# Altium footprint library Componenetes1.PcbLib: 13 footprints
Each footprint in its own frame and in the unit in brackets; x right, y up, seen from the top. Pads: shape width x height; smd on the part's side, far side on the other; paste and mask are expansions set on the pad; w line width, h text height; cw(c..) or ccw(c..) is an arc to the next point about the centre after c.
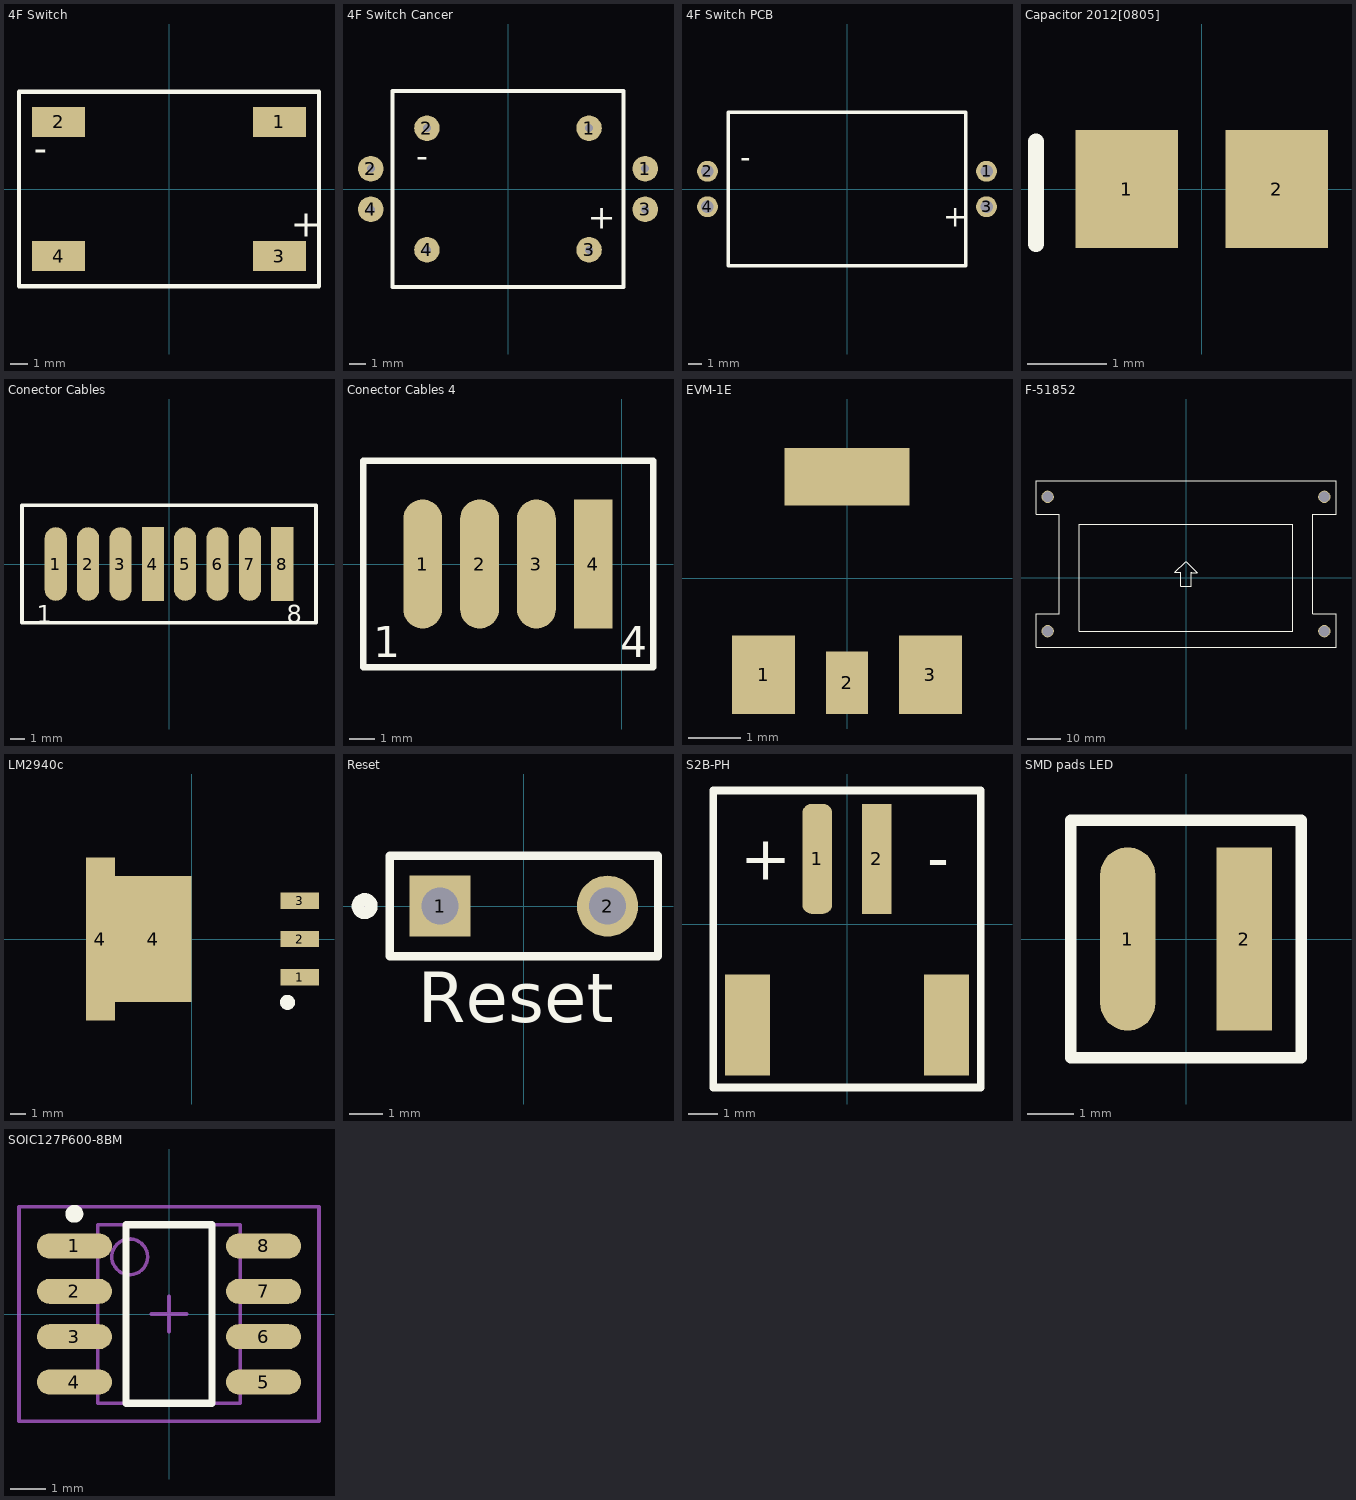
[diagram p0: the footprints below, top view; thin cyan lines are the x and y axes]

## 4F Switch [mm] "Tactile switch with LED"
pads (4):
  rect 3x1.7 smd: 1(6.25,3.81) 2(-6.25,3.81) 3(6.25,-3.81) 4(-6.25,-3.81)
Top Overlay:
  lines w0.254: -8.5,-5.5 -8.5,5.5 8.5,5.5 8.5,-5.5 -8.5,-5.5
  text "-" at -6.9,2.7 h1.52
  text "+" at 6.9,-2.7 h1.52

## 4F Switch Cancer [mm] "Tactile switch with LED"
pads (8):
  round 1.6 hole 0.5: 1(5.08,3.81) 1(8.6,1.27) 2(-8.6,1.27) 2(-5.08,3.81) 3(5.08,-3.81) 3(8.6,-1.27) 4(-8.6,-1.27) 4(-5.08,-3.81)
Top Overlay:
  lines w0.254: -7.25,-6.15 -7.25,6.15 7.25,6.15 7.25,-6.15 -7.25,-6.15
  text "-" at -5,2.5 h1.52
  text "+" at 5,-2.5 h1.52

## 4F Switch PCB [mm] "Tactile switch with LED"
pads (4):
  round 1.5 hole 0.9: 1(10,1.27) 2(-10,1.27) 3(10,-1.27) 4(-10,-1.27)
Top Overlay:
  lines w0.254: -8.5,-5.5 8.5,-5.5 8.5,5.5 -8.5,5.5 -8.5,-5.5
  text "+" at 6.9,-2.7 h1.52
  text "-" at -6.9,2.7 h1.52

## Capacitor 2012[0805] [mm] "Chip Capacitor; Body 2.0 x 1.2 mm (LxW typ)"
height 1.1
pads (2):
  rect 1.3x1.5 smd: 1(-0.95,0) 2(0.95,0)
Top Overlay:
  lines w0.2: -2.1,-0.7 -2.1,0.6

## Conector Cables [mm] "Conector de 8 pads para cables que salen del módulo"
pads (8):
  oval 1.5x5 smd: 1(-7.7,0) 2(-5.5,0) 3(-3.3,0) 5(1.1,0) 6(3.3,0) 7(5.5,0)
  rect 1.5x5 smd: 4(-1.1,0) 8(7.7,0)
Top Overlay:
  lines w0.254: -10,-4 -10,4 10,4 10,-4 -10,-4
  text "8" at 8,-4 h1.2
  text "1" at -9,-4 h1.2

## Conector Cables 4 [mm] "Conector de 4 pads para cables que salen del módulo"
pads (4):
  oval 1.5x5 smd: 1(-7.7,0) 2(-5.5,0) 3(-3.3,0)
  rect 1.5x5 smd: 4(-1.1,0)
Top Overlay:
  lines w0.254: -10,-4 1.219,-4 1.219,4 -10,4 -10,-4
  text "1" at -9.601,-3.607 h1.2
  text "4" at -0.051,-3.607 h1.2

## EVM-1E [mm] "Potenciomentro 500k"
pads (4):
  rect 1.2x1.5 smd: 1(-1.6,-1.85) 3(1.6,-1.85)
  rect 0.8x1.2 smd: 2(0,-2)
  rect 2.4x1.1 smd: ""(0,1.95)

## F-51852 [mm] "Pantalla LCD 128x64"
pads (4):
  round 3.7 hole 3.2: ""(-41.35,-16.01) ""(-41.35,24.19) ""(41.35,-16.01) ""(41.35,24.19)
Top Overlay:
  lines w0.254: -44.85,-20.81 -44.85,-10.81 -37.85,-10.81 -37.85,18.99 -44.85,18.99 -44.85,28.99 44.85,28.99 44.85,18.99 37.85,18.99 37.85,-10.81 44.85,-10.81 44.85,-20.81 -44.85,-20.81 ; -31.929,-15.96 -31.929,15.96 31.929,15.96 31.929,-15.96 -31.929,-15.96 ; -3.3,1.6 -0.1,4.8 0,4.8 3.3,1.5 1.6,1.5 1.5,1.6 1.5,-2.5 -1.5,-2.5 -1.5,1.6 -3.3,1.6

## LM2940c [mm] "Regulador de voltaje"
pads (5):
  rect 2.54x1.07 smd: 1(7.17,-2.54) 2(7.17,0) 3(7.17,2.54)
  rect 1.91x10.8 smd: 4(-6.045,0)
  rect 5.09x8.33 smd: 4(-2.55,0)
Top Overlay:
  circle w0.5: c6.35,-4.2 r0.25

## Reset [mil]
pads (2):
  rect 73x73 hole 44 mask+3: 1(-100,0)
  round 73 hole 44: 2(100,0)
Top Overlay:
  circle w15: c-190,0 r8
  lines w10: 160,-60 -160,-60 -160,60 160,60 ; 160.3,-59.7 160.3,60.3
  text "Reset" at -126.9,-138.9 h60

## S2B-PH [mm] "Conector Backlight"
pads (4):
  rrect60% 1x3.7 smd: 1(-1,2.2)
  rect 1x3.7 smd: 2(1,2.2)
  rect 1.5x3.4 smd: ""(-3.35,-3.4) ""(3.35,-3.4)
Top Overlay:
  lines w0.254: -4.5,-5.5 -4.5,4.5 4.5,4.5 4.5,-5.5 -4.5,-5.5
  text "-" at 2.7,1.5 h1.5
  text "+" at -3.6,1.5 h1.5

## SMD pads LED [mm] "Pads SMD para un LED trough-hole"
pads (2):
  oval 1.2x4 smd: 1(-1.27,0)
  rect 1.2x4 smd: 2(1.27,0)
Top Overlay:
  lines w0.254: -2.515,-2.591 2.515,-2.591 2.515,2.591 -2.515,2.591 -2.515,-2.591

## SOIC127P600-8BM [mm] "SOIC, 8-Leads, Body 4.9x3.9mm, Pitch 1.27mm, IPC Low Density"
height 2.59
pads (8):
  oval 2.1x0.7 smd: 1(-2.65,1.905) 2(-2.65,0.635) 3(-2.65,-0.635) 4(-2.65,-1.905) 5(2.65,-1.905) 6(2.65,-0.635) 7(2.65,0.635) 8(2.65,1.905)
Top Overlay:
  circle w0.25: c-2.65,2.805 r0.125
  lines w0.2: -1.2,-2.5 1.2,-2.5 1.2,2.5 -1.2,2.5 -1.2,-2.5
Mechanical 13:
  circle w0.1: c-1.1,1.6 r0.5
  lines w0.1: -2,-2.5 2,-2.5 2,2.5 -2,2.5 -2,-2.5
Mechanical 15:
  lines w0.1: -0.5,0 0.5,0 ; 0,-0.5 0,0.5 ; -4.2,-3 4.2,-3 4.2,3 -4.2,3 -4.2,-3
3D body: height 2.59, standoff 0, extent -2,-2.5 2,2.5